# Altium schematic symbol library Fuse.SchLib: 1 symbol
Pins are listed as number, name and electrical type; pins without a type are passive.

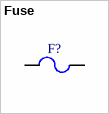
[diagram p0: symbol Fuse]

## Fuse
designator F?
pins: 1, 2